# EAGLE library part DFR0229 (library UORocketry)
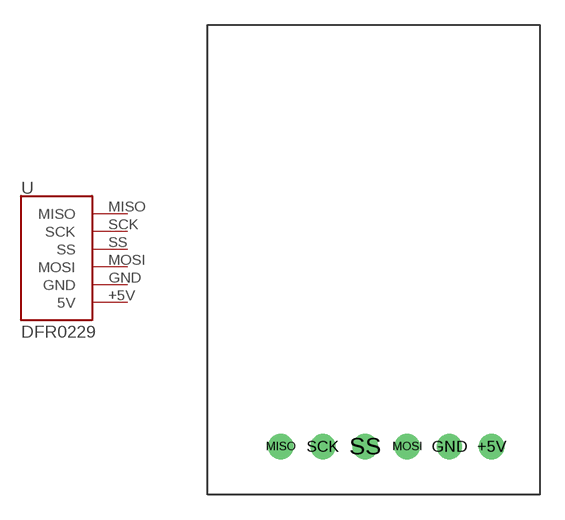
[diagram p5: symbol with the pads of DFR0229; footprint DFR0229]

Designator prefix -

## DFR0229  [DFR0229]
+5V  5V
GND  GND
MISO  MISO
MOSI  MOSI
SCK  SCK
SS  SS

## Footprint DFR0229 (pad centres in mm)
drill 1.016: +5V 7.1,-11.25; GND 4.56,-11.25; MISO -5.6,-11.25; MOSI 2.02,-11.25; SCK -3.06,-11.25; SS -0.52,-11.25